# Altium footprint library PCB - CONNECTOR - MOLEX - MOLEX 0541045033.PCBLIB: 1 footprints
Each footprint in its own frame and in the unit in brackets; x right, y up, seen from the top. Pads: shape width x height; smd on the part's side, far side on the other; paste and mask are expansions set on the pad; w line width, h text height; cw(c..) or ccw(c..) is an arc to the next point about the centre after c.
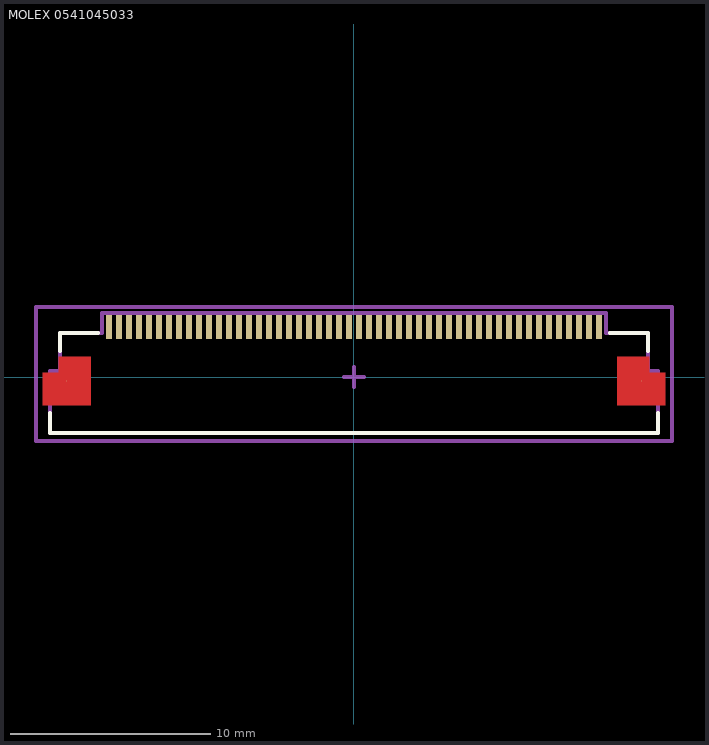
[diagram p0: the footprint, top view; thin cyan lines are the x and y axes]

## MOLEX 0541045033 [mm] "50 pos FPC"
height 2
pads (52):
  rect 0.3x1.2 smd: 1(-12.25,2.5) 2(-11.75,2.5) 3(-11.25,2.5) 4(-10.75,2.5) 5(-10.25,2.5) 6(-9.75,2.5) 7(-9.25,2.5) 8(-8.75,2.5) 9(-8.25,2.5) 10(-7.75,2.5) 11(-7.25,2.5) 12(-6.75,2.5) 13(-6.25,2.5) 14(-5.75,2.5) 15(-5.25,2.5) 16(-4.75,2.5) 17(-4.25,2.5) 18(-3.75,2.5) 19(-3.25,2.5) 20(-2.75,2.5) 21(-2.25,2.5) 22(-1.75,2.5) 23(-1.25,2.5) 24(-0.75,2.5) 25(-0.25,2.5) 26(0.25,2.5) 27(0.75,2.5) 28(1.25,2.5) 29(1.75,2.5) 30(2.25,2.5) 31(2.75,2.5) 32(3.25,2.5) 33(3.75,2.5) 34(4.25,2.5) 35(4.75,2.5) 36(5.25,2.5) 37(5.75,2.5) 38(6.25,2.5) 39(6.75,2.5) 40(7.25,2.5) 41(7.75,2.5) 42(8.25,2.5) 43(8.75,2.5) 44(9.25,2.5) 45(9.75,2.5) 46(10.25,2.5) 47(10.75,2.5) 48(11.25,2.5) 49(11.75,2.5) 50(12.25,2.5)
  round 0.025 smd: M(-14.35,-0.2) M(14.35,-0.2)
Top Layer:
  region: 15.55,-1.4 13.15,-1.4 13.15,1 14.75,1 14.75,0.2 15.55,0.2
  region: -15.55,-1.4 -13.15,-1.4 -13.15,1 -14.75,1 -14.75,0.2 -15.55,0.2
Top Overlay:
  lines w0.2: -15.2,-1.8 -15.2,-2.8 15.2,-2.8 15.2,-1.8 ; -14.7,1.3 -14.7,2.2 -12.8,2.2 ; 12.8,2.2 14.7,2.2 14.7,1.3
Top Assembly:
  lines w0.2: -0.5,0 0.5,0 ; 0,-0.5 0,0.5 ; -15.2,-2.8 -15.2,0.3 -14.7,0.3 -14.7,2.2 -12.6,2.2 -12.6,3.2 12.6,3.2 12.6,2.2 14.7,2.2 14.7,0.3 15.2,0.3 15.2,-2.8 -15.2,-2.8
Top Courtyard (Mech15):
  lines w0.2: -15.9,-3.2 -15.9,3.5 15.9,3.5 15.9,-3.2 -15.9,-3.2
3D body "Molex 0541045033.step": height 2.05, standoff 0, extent -15.25,-2.8 15.25,2.8